# Altium footprint library Mylibr1.PcbLib: 92 footprints (part 5 of 6)
Each footprint in its own frame and in the unit in brackets; x right, y up, seen from the top. Pads: shape width x height; smd on the part's side, far side on the other; paste and mask are expansions set on the pad; w line width, h text height; cw(c..) or ccw(c..) is an arc to the next point about the centre after c.
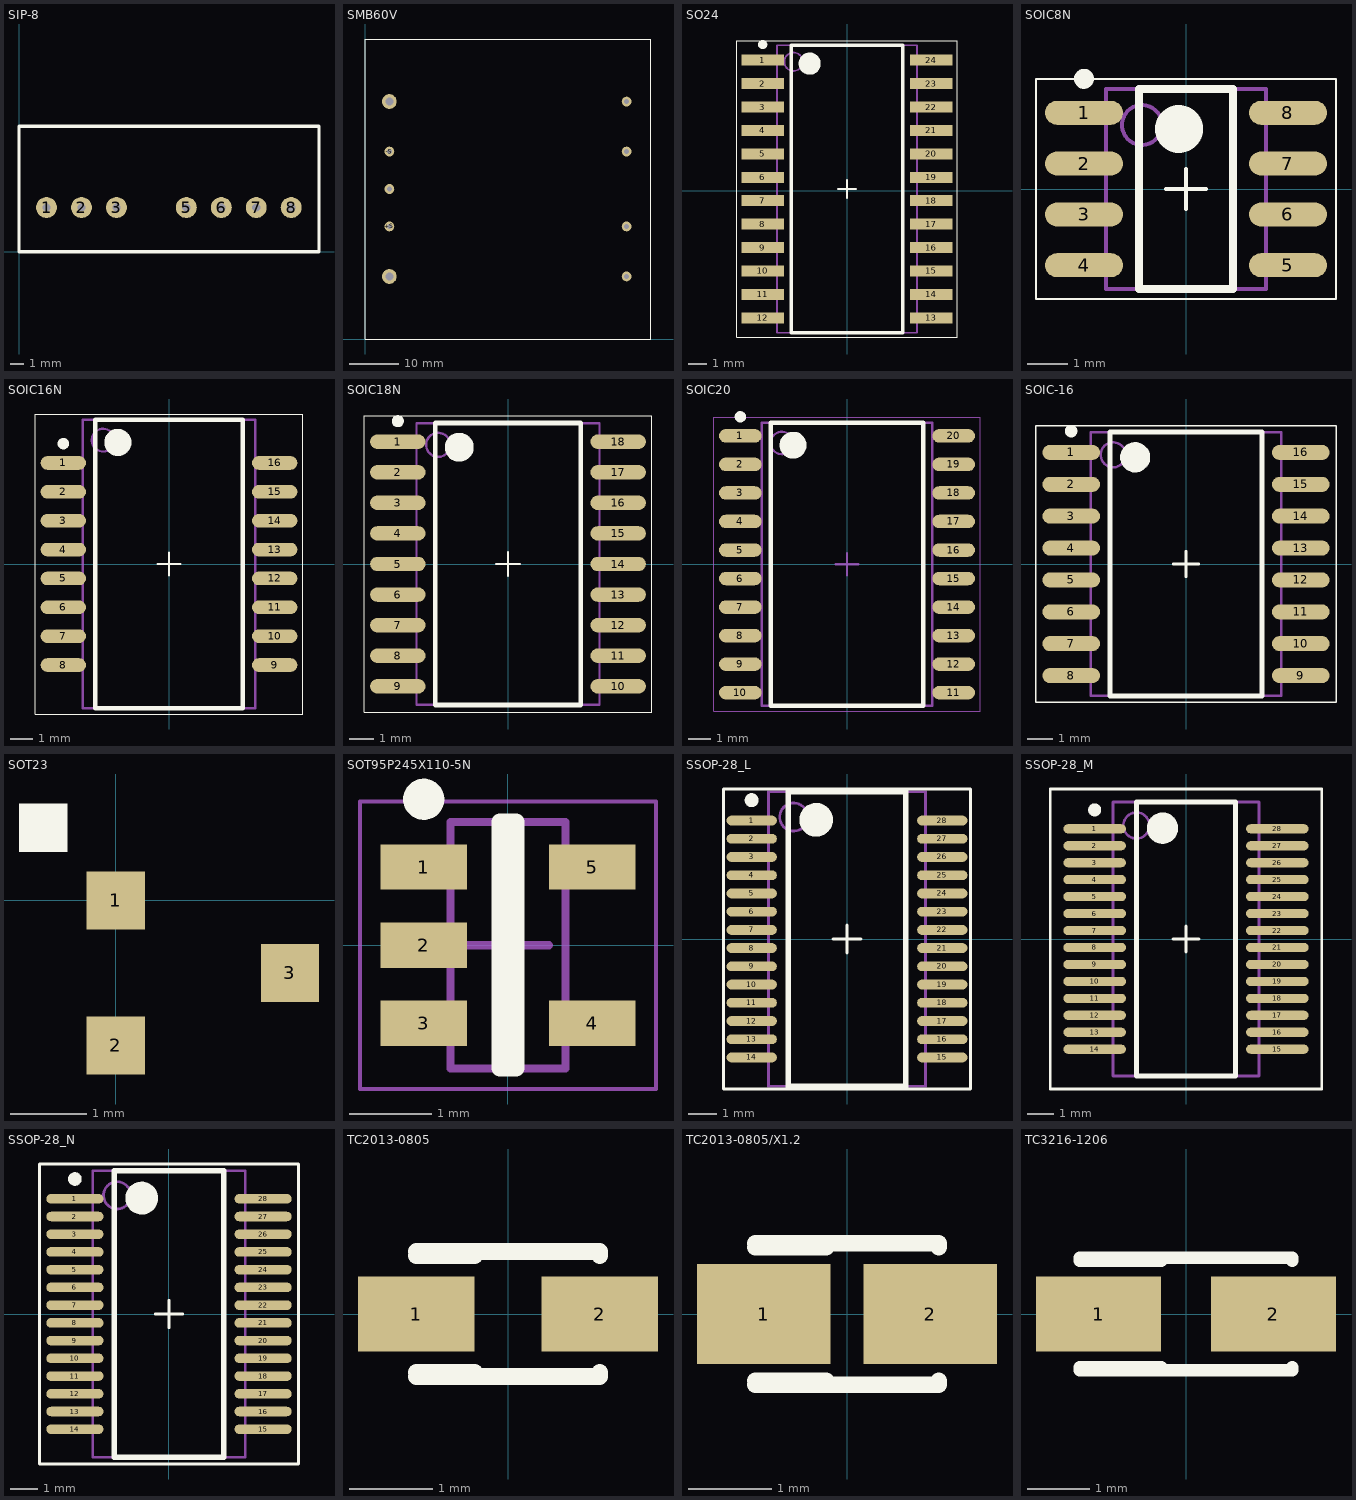
[diagram p4: the footprints below, top view; thin cyan lines are the x and y axes]

## SIP-8 [mm]
pads (7):
  round 1.524 hole 0.6: 1(2,3.2) 2(4.54,3.2) 3(7.08,3.2) 5(12.16,3.2) 6(14.7,3.2) 7(17.24,3.2) 8(19.78,3.2)
Top Overlay:
  lines w0.254: 0,0 21.8,0 21.8,9.1 0,9.1 0,0

## SMB60V [mm]
height 13
pads (9):
  round 2 hole 1: +S(4.875,22.88) +Vin(53.125,12.72) -S(4.875,38.12) -Vin(53.125,48.28) GND(53.125,38.12) ON/OFF(53.125,22.88) Trim(4.875,30.5)
  round 3 hole 1.6: +Vout(4.875,12.72) -Vout(4.875,48.28)
Top Overlay:
  lines w0.254: 0,0 0,61 58,61 58,0 0,0

## SO24 [mm]
height 2.5
pads (24):
  rect 2.3x0.6 smd: 1(-4.575,7.085) 2(-4.575,5.815) 3(-4.575,4.545) 4(-4.575,3.275) 5(-4.575,2.005) 6(-4.575,0.735) 7(-4.575,-0.535) 8(-4.575,-1.805) 9(-4.575,-3.075) 10(-4.575,-4.345) 11(-4.575,-5.615) 12(-4.575,-6.885) 13(4.575,-6.885) 14(4.575,-5.615) 15(4.575,-4.345) 16(4.575,-3.075) 17(4.575,-1.805) 18(4.575,-0.535) 19(4.575,0.735) 20(4.575,2.005) 21(4.575,3.275) 22(4.575,4.545) 23(4.575,5.815) 24(4.575,7.085)
Top Overlay:
  circle w0.25: c-4.575,7.935 r0.125
  circle w0.6: c-2.025,6.9 r0.3
  lines w0.05: -5.975,-7.95 -5.975,8.15 5.975,8.15 5.975,-7.95 -5.975,-7.95
  lines w0.1: -0.5,0.1 0.5,0.1 ; 0,-0.4 0,0.6
  lines w0.2: -3.025,-7.7 -3.025,7.9 3.025,7.9 3.025,-7.7 -3.025,-7.7
Mechanical 13:
  circle w0.1: c-2.9,7 r0.5
  lines w0.1: -3.8,-7.7 -3.8,7.9 3.8,7.9 3.8,-7.7 -3.8,-7.7
3D body: height 2.5, standoff 0.2, extent -3.8,-7.7 3.8,7.9

## SOIC8N [mm] "SOIC, 8-Leads, Body 4,90x3,90mm, Pitch 1,27mm, IPC Medium Density"
height 1.75
pads (8):
  oval 1.95x0.6 smd: 1(-2.55,1.905) 2(-2.55,0.635) 3(-2.55,-0.635) 4(-2.55,-1.905) 5(2.55,-1.905) 6(2.55,-0.635) 7(2.55,0.635) 8(2.55,1.905)
Top Overlay:
  circle w0.25: c-2.55,2.755 r0.125
  circle w0.6: c-0.175,1.5 r0.3
  lines w0.05: -3.75,-2.75 -3.75,2.75 3.75,2.75 3.75,-2.75 -3.75,-2.75
  lines w0.1: -0.5,0 0.5,0 ; 0,-0.5 0,0.5
  lines w0.2: -1.175,-2.5 -1.175,2.5 1.175,2.5 1.175,-2.5 -1.175,-2.5
Mechanical 13:
  circle w0.1: c-1.1,1.6 r0.5
  lines w0.1: -2,-2.5 -2,2.5 2,2.5 2,-2.5 -2,-2.5
3D body: height 1.75, standoff 0.2, extent -2,-2.5 2,2.5

## SOIC16N [mm] "SOIC, 16-Leads, Body 12,75x7,50mm, Pitch 1,27mm, IPC Medium Density"
height 2.65
pads (16):
  oval 2x0.6 smd: 1(-4.65,4.445) 2(-4.65,3.175) 3(-4.65,1.905) 4(-4.65,0.635) 5(-4.65,-0.635) 6(-4.65,-1.905) 7(-4.65,-3.175) 8(-4.65,-4.445) 9(4.65,-4.445) 10(4.65,-3.175) 11(4.65,-1.905) 12(4.65,-0.635) 13(4.65,0.635) 14(4.65,1.905) 15(4.65,3.175) 16(4.65,4.445)
Top Overlay:
  circle w0.6: c-2.25,5.35 r0.3
  circle w0.25: c-4.65,5.295 r0.125
  lines w0.05: -5.875,-6.6 5.875,-6.6 5.875,6.6 -5.875,6.6 -5.875,-6.6
  lines w0.1: -0.5,0 0.5,0 ; 0,-0.5 0,0.5
  lines w0.2: -3.25,-6.35 3.25,-6.35 3.25,6.35 -3.25,6.35 -3.25,-6.35
Mechanical 13:
  circle w0.1: c-2.9,5.45 r0.5
  lines w0.1: -3.8,-6.35 3.8,-6.35 3.8,6.35 -3.8,6.35 -3.8,-6.35
3D body: height 2.65, standoff 0.3, extent -3.8,-6.35 3.8,6.35

## SOIC18N [mm] "SOIC, 18-Leads, Body 11,53x7,50mm, Pitch 1,27mm, IPC Medium Density"
height 2.5
pads (18):
  oval 2.3x0.6 smd: 1(-4.575,5.08) 2(-4.575,3.81) 3(-4.575,2.54) 4(-4.575,1.27) 5(-4.575,0) 6(-4.575,-1.27) 7(-4.575,-2.54) 8(-4.575,-3.81) 9(-4.575,-5.08) 10(4.575,-5.08) 11(4.575,-3.81) 12(4.575,-2.54) 13(4.575,-1.27) 14(4.575,0) 15(4.575,1.27) 16(4.575,2.54) 17(4.575,3.81) 18(4.575,5.08)
Top Overlay:
  circle w0.6: c-2.025,4.85 r0.3
  circle w0.25: c-4.575,5.93 r0.125
  lines w0.05: -5.975,-6.15 5.975,-6.15 5.975,6.15 -5.975,6.15 -5.975,-6.15
  lines w0.1: -0.5,0 0.5,0 ; 0,-0.5 0,0.5
  lines w0.2: -3.025,-5.85 3.025,-5.85 3.025,5.85 -3.025,5.85 -3.025,-5.85
Mechanical 13:
  circle w0.1: c-2.9,4.95 r0.5
  lines w0.1: -3.8,-5.85 3.8,-5.85 3.8,5.85 -3.8,5.85 -3.8,-5.85
3D body: height 2.5, standoff 0.2, extent -3.8,-5.85 3.8,5.85

## SOIC20 [mm] "SOIC, 20-Leads, Body 12,80x7,50mm, Pitch 1,27mm, IPC Medium Density"
height 2.65
pads (20):
  oval 1.9x0.6 smd: 1(-4.75,5.715) 2(-4.75,4.445) 3(-4.75,3.175) 4(-4.75,1.905) 5(-4.75,0.635) 6(-4.75,-0.635) 7(-4.75,-1.905) 8(-4.75,-3.175) 9(-4.75,-4.445) 10(-4.75,-5.715) 11(4.75,-5.715) 12(4.75,-4.445) 13(4.75,-3.175) 14(4.75,-1.905) 15(4.75,-0.635) 16(4.75,0.635) 17(4.75,1.905) 18(4.75,3.175) 19(4.75,4.445) 20(4.75,5.715)
Top Overlay:
  circle w0.25: c-4.75,6.565 r0.125
  circle w0.6: c-2.4,5.3 r0.3
  lines w0.2: -3.4,-6.3 -3.4,6.3 3.4,6.3 3.4,-6.3 -3.4,-6.3
Mechanical 13:
  circle w0.1: c-2.9,5.4 r0.5
  lines w0.1: -3.8,-6.3 -3.8,6.3 3.8,6.3 3.8,-6.3 -3.8,-6.3
Mechanical 15:
  lines w0.05: -5.925,-6.55 -5.925,6.55 5.925,6.55 5.925,-6.55 -5.925,-6.55
  lines w0.1: -0.5,0 0.5,0 ; 0,-0.5 0,0.5
3D body: height 2.65, standoff 0.1, extent -3.8,-6.3 3.8,6.3

## SOIC-16 [mm] "SOIC, 16-Leads, Body 10,30x7,50mm, Pitch 1,27mm, IPC Medium Density"
height 2.65
pads (16):
  oval 2.3x0.6 smd: 1(-4.575,4.445) 2(-4.575,3.175) 3(-4.575,1.905) 4(-4.575,0.635) 5(-4.575,-0.635) 6(-4.575,-1.905) 7(-4.575,-3.175) 8(-4.575,-4.445) 9(4.575,-4.445) 10(4.575,-3.175) 11(4.575,-1.905) 12(4.575,-0.635) 13(4.575,0.635) 14(4.575,1.905) 15(4.575,3.175) 16(4.575,4.445)
Top Overlay:
  circle w0.25: c-4.575,5.295 r0.125
  circle w0.6: c-2.025,4.25 r0.3
  lines w0.05: -5.975,-5.5 -5.975,5.5 5.975,5.5 5.975,-5.5 -5.975,-5.5
  lines w0.1: -0.5,0 0.5,0 ; 0,-0.5 0,0.5
  lines w0.2: -3.025,-5.25 -3.025,5.25 3.025,5.25 3.025,-5.25 -3.025,-5.25
Mechanical 13:
  circle w0.1: c-2.9,4.35 r0.5
  lines w0.1: -3.8,-5.25 -3.8,5.25 3.8,5.25 3.8,-5.25 -3.8,-5.25
3D body: height 2.65, standoff 0.2, extent -3.8,-5.25 3.8,5.25

## SOT23 [mil]
height 118.11
pads (3):
  rect 30x30 smd: 1(0,0) 2(0,-75) 3(90,-37.5)
Top Overlay:
  region: -50,25 -25,25 -25,50 -50,50
3D body "SOT-23.step": height 41.34, standoff -1.97, extent -4,-97 94.42,21.11

## SOT95P245X110-5N [mm] "SOT23, 5-Leads, Body 2,90x2,45mm, Pitch 0,95mm, IPC Medium Density"
height 1.1
pads (5):
  rect 1.05x0.55 smd: 1(-1.025,0.95) 2(-1.025,0) 3(-1.025,-0.95) 4(1.025,-0.95) 5(1.025,0.95)
Top Overlay:
  circle w0.25: c-1.025,1.775 r0.125
  lines w0.2: -0.1,-1.5 0.1,-1.5 0.1,1.5 -0.1,1.5 -0.1,-1.5
Mechanical 13:
  lines w0.1: -0.7,-1.5 -0.7,1.5 0.7,1.5 0.7,-1.5 -0.7,-1.5
Mechanical 15:
  lines w0.05: -1.8,-1.75 -1.8,1.75 1.8,1.75 1.8,-1.75 -1.8,-1.75
  lines w0.1: -0.5,0 0.5,0 ; 0,-0.5 0,0.5
3D body: height 1.1, standoff 0.05, extent -0.7,-1.5 0.7,1.5

## SSOP-28_L [mm]
pads (28):
  oval 1.8x0.35 smd: 1(-3.4,4.225) 2(-3.4,3.575) 3(-3.4,2.925) 4(-3.4,2.275) 5(-3.4,1.625) 6(-3.4,0.975) 7(-3.4,0.325) 8(-3.4,-0.325) 9(-3.4,-0.975) 10(-3.4,-1.625) 11(-3.4,-2.275) 12(-3.4,-2.925) 13(-3.4,-3.575) 14(-3.4,-4.225) 15(3.4,-4.225) 16(3.4,-3.575) 17(3.4,-2.925) 18(3.4,-2.275) 19(3.4,-1.625) 20(3.4,-0.975) 21(3.4,-0.325) 22(3.4,0.325) 23(3.4,0.975) 24(3.4,1.625) 25(3.4,2.275) 26(3.4,2.925) 27(3.4,3.575) 28(3.4,4.225)
Top Overlay:
  circle w0.6: c-1.1,4.25 r0.3
  circle w0.25: c-3.4,4.95 r0.125
  lines w0.1: -0.5,0 0.5,0 ; 0,-0.5 0,0.5 ; -4.4,-5.35 4.4,-5.35 4.4,5.35 -4.4,5.35 -4.4,-5.35
  lines w0.2: -2.1,-5.25 2.1,-5.25 2.1,5.25 -2.1,5.25 -2.1,-5.25
Mechanical 13:
  circle w0.1: c-1.9,4.35 r0.5
  lines w0.1: -2.8,-5.25 2.8,-5.25 2.8,5.25 -2.8,5.25 -2.8,-5.25
3D body: height 2, standoff 0.05, extent -2.8,-5.25 2.8,5.25

## SSOP-28_M [mm] "SOP, 28-Leads, Body 10.2x5.3mm, Pitch 0.65mm, IPC Low Density"
height 2
pads (28):
  oval 2.4x0.35 smd: 1(-3.5,4.225) 2(-3.5,3.575) 3(-3.5,2.925) 4(-3.5,2.275) 5(-3.5,1.625) 6(-3.5,0.975) 7(-3.5,0.325) 8(-3.5,-0.325) 9(-3.5,-0.975) 10(-3.5,-1.625) 11(-3.5,-2.275) 12(-3.5,-2.925) 13(-3.5,-3.575) 14(-3.5,-4.225) 15(3.5,-4.225) 16(3.5,-3.575) 17(3.5,-2.925) 18(3.5,-2.275) 19(3.5,-1.625) 20(3.5,-0.975) 21(3.5,-0.325) 22(3.5,0.325) 23(3.5,0.975) 24(3.5,1.625) 25(3.5,2.275) 26(3.5,2.925) 27(3.5,3.575) 28(3.5,4.225)
Top Overlay:
  circle w0.25: c-3.5,4.95 r0.125
  circle w0.6: c-0.9,4.25 r0.3
  lines w0.1: -0.5,0 0.5,0 ; 0,-0.5 0,0.5 ; -5.2,-5.75 -5.2,5.75 5.2,5.75 5.2,-5.75 -5.2,-5.75
  lines w0.2: -1.9,-5.25 -1.9,5.25 1.9,5.25 1.9,-5.25 -1.9,-5.25
Mechanical 13:
  circle w0.1: c-1.9,4.35 r0.5
  lines w0.1: -2.8,-5.25 -2.8,5.25 2.8,5.25 2.8,-5.25 -2.8,-5.25
3D body: height 2, standoff 0.05, extent -2.8,-5.25 2.8,5.25

## SSOP-28_N [mm] "SOP, 28-Leads, Body 10.2x5.3mm, Pitch 0.65mm, IPC Medium Density"
height 2
pads (28):
  oval 2.1x0.35 smd: 1(-3.45,4.225) 2(-3.45,3.575) 3(-3.45,2.925) 4(-3.45,2.275) 5(-3.45,1.625) 6(-3.45,0.975) 7(-3.45,0.325) 8(-3.45,-0.325) 9(-3.45,-0.975) 10(-3.45,-1.625) 11(-3.45,-2.275) 12(-3.45,-2.925) 13(-3.45,-3.575) 14(-3.45,-4.225) 15(3.45,-4.225) 16(3.45,-3.575) 17(3.45,-2.925) 18(3.45,-2.275) 19(3.45,-1.625) 20(3.45,-0.975) 21(3.45,-0.325) 22(3.45,0.325) 23(3.45,0.975) 24(3.45,1.625) 25(3.45,2.275) 26(3.45,2.925) 27(3.45,3.575) 28(3.45,4.225)
Top Overlay:
  circle w0.6: c-1,4.25 r0.3
  circle w0.25: c-3.45,4.95 r0.125
  lines w0.1: -0.5,0 0.5,0 ; 0,-0.5 0,0.5 ; -4.75,-5.5 4.75,-5.5 4.75,5.5 -4.75,5.5 -4.75,-5.5
  lines w0.2: -2,-5.25 2,-5.25 2,5.25 -2,5.25 -2,-5.25
Mechanical 13:
  circle w0.1: c-1.9,4.35 r0.5
  lines w0.1: -2.8,-5.25 2.8,-5.25 2.8,5.25 -2.8,5.25 -2.8,-5.25
3D body: height 2, standoff 0.05, extent -2.8,-5.25 2.8,5.25

## TC2013-0805 [mm] "Capacitor, SM Tantalum; Body 2.0 x 1.3 mm (LxW typ)"
height 1.2
pads (2):
  rect 1.4x0.9 smd: 1(-1.1,0) 2(1.1,0)
Top Overlay:
  lines w0.2: -1.1,-0.75 1.1,-0.75 1.1,-0.7 ; -1.1,-0.7 -0.4,-0.7 ; -1.1,0.7 -0.4,0.7 ; -1.1,0.75 1.1,0.75 1.1,0.7

## TC2013-0805/X1.2 [mm] "Capacitor, SM Tantalum; Body 2.0 x 1.25 mm (LxW typ)"
height 1.2
pads (2):
  rect 1.6x1.2 smd: 1(-1,0) 2(1,0)
Top Overlay:
  lines w0.2: -1.1,-0.85 1.1,-0.85 1.1,-0.8 ; -1.1,-0.8 -0.25,-0.8 ; -1.1,0.8 -0.25,0.8 ; -1.1,0.85 1.1,0.85 1.1,0.8

## TC3216-1206 [mm] "Capacitor, SM Tantalum; Body 3.2 x 1.6 mm (LxW typ)"
height 2.2
pads (2):
  rect 2x1.2 smd: 1(-1.4,0) 2(1.4,0)
Top Overlay:
  lines w0.2: -1.7,-0.9 1.7,-0.9 1.7,-0.85 ; -1.7,-0.85 -0.4,-0.85 ; -1.7,0.85 -0.4,0.85 ; -1.7,0.9 1.7,0.9 1.7,0.85